# Altium footprint library R.PcbLib: 16 footprints
Each footprint in its own frame and in the unit in brackets; x right, y up, seen from the top. Pads: shape width x height; smd on the part's side, far side on the other; paste and mask are expansions set on the pad; w line width, h text height; cw(c..) or ccw(c..) is an arc to the next point about the centre after c.
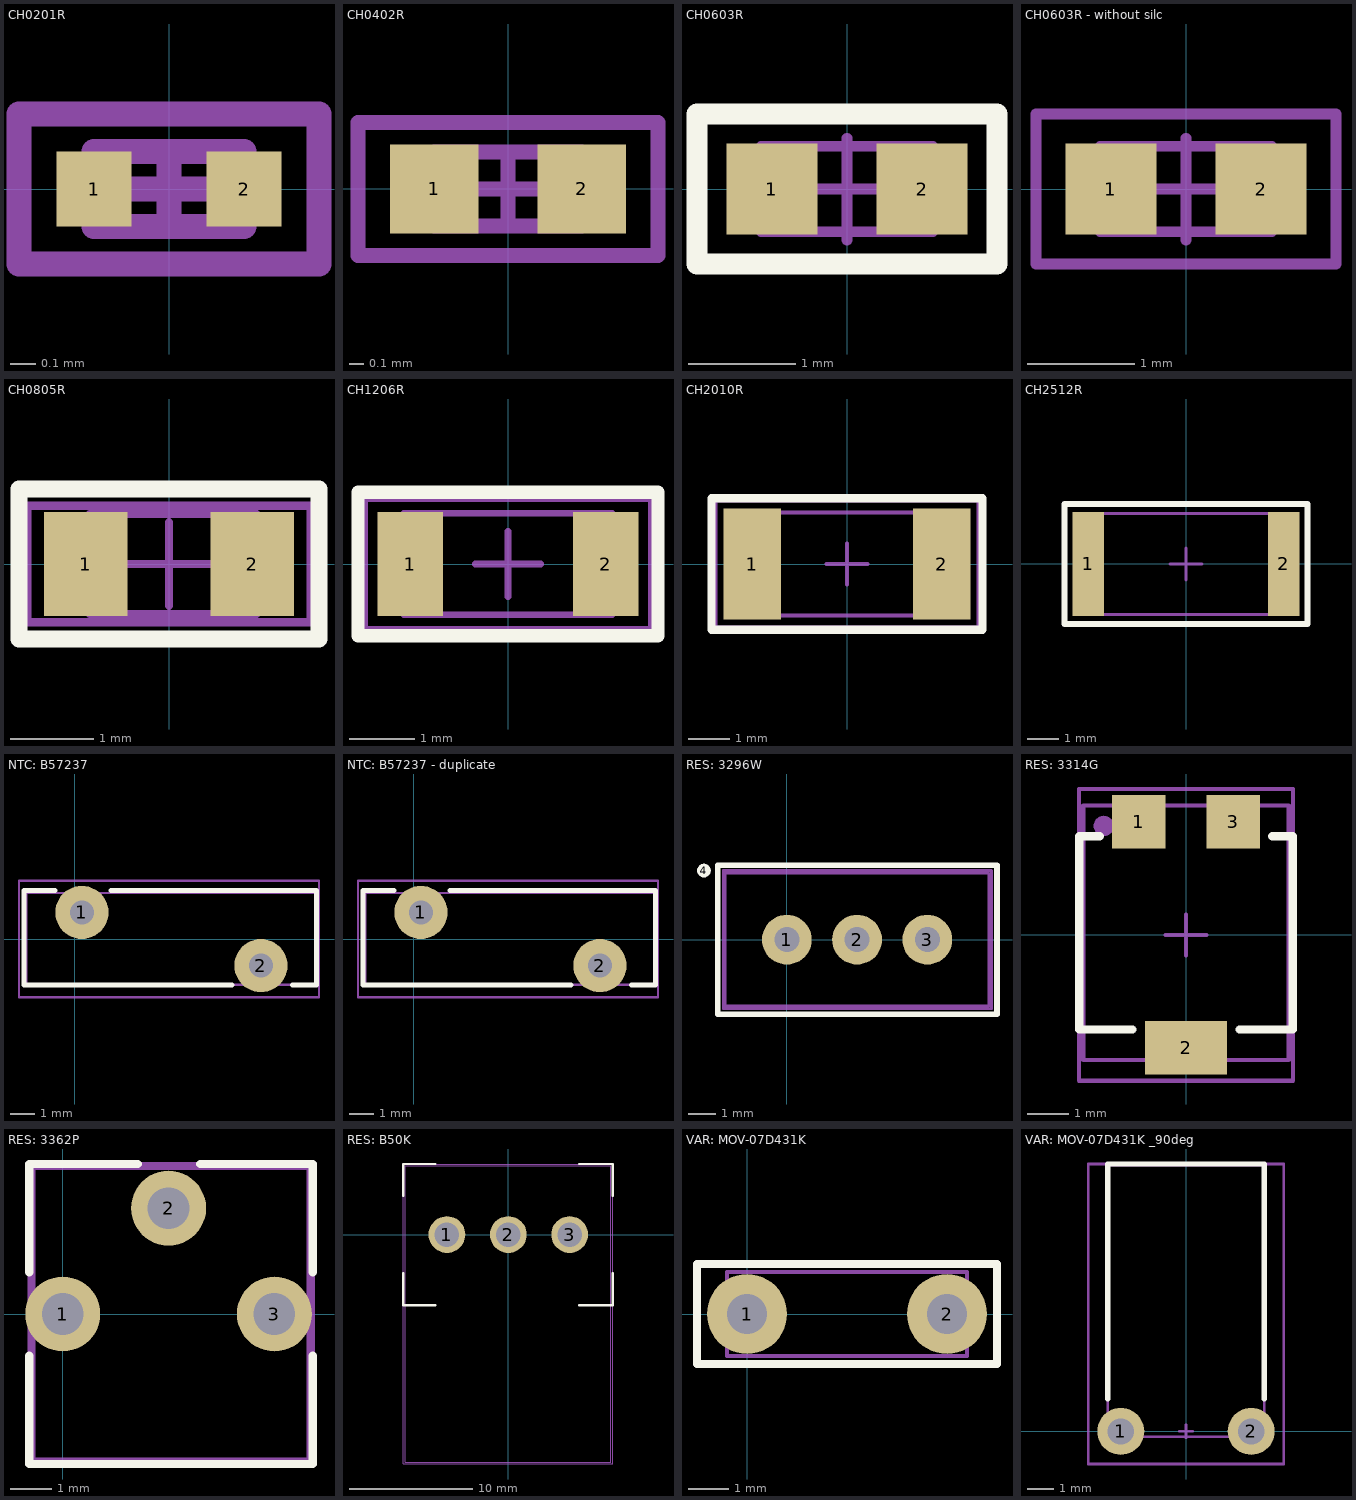
[diagram p0: the footprints below, top view; thin cyan lines are the x and y axes]

## CH0201R [mm]
height 0.23
pads (2):
  rect 0.3x0.3 smd: 1(-0.3,0) 2(0.3,0)
TopAssy:
  lines w0.1: -0.3,-0.15 -0.3,0.15 0.3,0.15 0.3,-0.15 -0.3,-0.15
Border:
  lines w0.1: -0.15,0 0.15,0 ; 0,-0.15 0,0.15 ; -0.6,-0.3 -0.6,0.3 0.6,0.3 0.6,-0.3 -0.6,-0.3
3D body "chip_0201_r.STEP": height 0.22, standoff -0.02, extent -0.3,-0.15 0.3,0.15

## CH0402R [mm]
height 0.35
pads (2):
  rect 0.6x0.6 smd: 1(-0.5,0) 2(0.5,0)
TopAssy:
  lines w0.1: -0.5,-0.25 -0.5,0.25 0.5,0.25 0.5,-0.25 -0.5,-0.25
Border:
  lines w0.1: -0.25,0 0.25,0 ; 0,-0.25 0,0.25 ; -1.016,-0.45 1.016,-0.45 1.016,0.45 -1.016,0.45 -1.016,-0.45
3D body "chip_0402_r.STEP": height 0.34, standoff -0.02, extent -0.525,-0.25 0.475,0.25

## CH0603R [mm]
height 0.45
pads (2):
  rect 0.85x0.85 smd: 1(-0.7,0) 2(0.7,0)
Top Overlay:
  lines w0.2: -1.4,-0.7 1.4,-0.7 1.4,0.7 -1.4,0.7 -1.4,-0.7
TopAssy:
  lines w0.1: -0.8,-0.4 0.8,-0.4 0.8,0.4 -0.8,0.4 -0.8,-0.4
Border:
  lines w0.1: -0.475,0 0.475,0 ; 0,-0.475 0,0.475 ; -1.4,-0.7 1.4,-0.7 1.4,0.7 -1.4,0.7 -1.4,-0.7
3D body "chip_0603_r.STEP": height 0.44, standoff -0.02, extent -0.8,-0.4 0.8,0.4

## CH0603R - without silc [mm]
height 0.45
pads (2):
  rect 0.85x0.85 smd: 1(-0.7,0) 2(0.7,0)
TopAssy:
  lines w0.1: -0.8,-0.4 -0.8,0.4 0.8,0.4 0.8,-0.4 -0.8,-0.4
Border:
  lines w0.1: -0.475,0 0.475,0 ; 0,-0.475 0,0.475 ; -1.4,-0.7 -1.4,0.7 1.4,0.7 1.4,-0.7 -1.4,-0.7
3D body "chip_0603_r.STEP": height 0.44, standoff -0.02, extent -0.8,-0.4 0.8,0.4

## CH0805R [mm]
height 0.45
pads (2):
  rect 1x1.25 smd: 1(-1,0) 2(1,0)
Top Overlay:
  lines w0.2: -1.8,-0.9 -1.8,0.9 1.8,0.9 1.8,-0.9 -1.8,-0.9
TopAssy:
  lines w0.1: -0.949,-0.6 -0.949,0.6 1.05,0.6 1.05,-0.6 -0.949,-0.6
Border:
  lines w0.1: -0.5,0 0.5,0 ; 0,-0.5 0,0.5 ; -1.7,-0.7 -1.7,0.7 1.7,0.7 1.7,-0.7 -1.7,-0.7
3D body "chip_0805_r.STEP": height 0.44, standoff -0.02, extent -1,-0.6 1,0.6

## CH1206R [mm] "Chip Resistor, 2-Leads, Body 3,0x1,5mm, IPC Low Density"
height 0.6
pads (2):
  rect 1x1.6 smd: 1(-1.5,0) 2(1.5,0)
Top Overlay:
  lines w0.2: -2.3,-1.1 2.3,-1.1 2.3,1.1 -2.3,1.1 -2.3,-1.1
TopAssy:
  lines w0.1: -1.6,-0.775 1.6,-0.775 1.6,0.775 -1.6,0.775 -1.6,-0.775
Border:
  lines w0.1: -0.5,0 0.5,0 ; 0,-0.5 0,0.5 ; -2.2,-1 2.2,-1 2.2,1 -2.2,1 -2.2,-1
3D body "chip_1206_r.STEP": height 0.47, standoff -0.03, extent -1.65,-0.8 1.55,0.8

## CH2010R [mm]
height 0.55
pads (2):
  rect 1.4x2.7 smd: 1(-2.3,0) 2(2.3,0)
Top Overlay:
  lines w0.2: -3.3,-1.6 -3.3,1.6 3.3,1.6 3.3,-1.6 -3.3,-1.6
TopAssy:
  lines w0.1: -2.5,-1.25 -2.5,1.25 2.5,1.25 2.5,-1.25 -2.5,-1.25
Border:
  lines w0.1: -0.5,0 0.5,0 ; 0,-0.5 0,0.5 ; -3.2,-1.55 3.2,-1.55 3.2,1.55 -3.2,1.55 -3.2,-1.55
3D body "User Library-R_2010.STEP": height 0.6, standoff 0, extent -2.5,-1.25 2.5,1.25

## CH2512R [mm]
height 0.55
pads (2):
  rect 1x3.3 smd: 1(-3.1,0) 2(3.1,0)
Top Overlay:
  lines w0.2: -3.85,-1.9 -3.85,1.9 3.85,1.9 3.85,-1.9 -3.85,-1.9
TopAssy:
  lines w0.1: -3.175,-1.6 -3.175,1.6 3.175,1.6 3.175,-1.6 -3.175,-1.6
Border:
  lines w0.1: -0.5,0 0.5,0 ; 0,-0.5 0,0.5 ; -3.85,-1.9 -3.85,1.9 3.85,1.9 3.85,-1.9 -3.85,-1.9
3D body "chip_2512_r.STEP": height 0.52, standoff -0.04, extent -3.175,-1.6 3.175,1.6

## NTC: B57237 [mm]
pads (2):
  round 2.2 hole 1: 1(0.3,1.1) 2(7.7,-1.1)
Top Overlay:
  lines w0.2: -0.8,2 -2.1,2 -2.1,-1.9 6.5,-1.9 ; 1.5,2 10,2 10,-1.9 9,-1.9
TopAssy:
  lines w0.1: -2,-1.9 -2,1.902 10,1.902 10,-1.9 -2,-1.9
Border (Mech15):
  lines w0.1: -2.3,-2.4 10.1,-2.4 10.1,2.4 -2.3,2.4 -2.3,-2.4
3D body "User Library-S10K275.STEP": height 13, standoff -2.5, extent -2,-1.9 10,1.902

## NTC: B57237 - duplicate [mm]
pads (2):
  round 2.2 hole 1: 1(0.3,1.1) 2(7.7,-1.1)
Top Overlay:
  lines w0.2: -0.8,2 -2.1,2 -2.1,-1.9 6.5,-1.9 ; 1.5,2 10,2 10,-1.9 9,-1.9
TopAssy:
  lines w0.1: -2,-1.9 10,-1.9 10,1.902 -2,1.902 -2,-1.9
Border (Mech15):
  lines w0.1: -2.3,-2.4 -2.3,2.4 10.1,2.4 10.1,-2.4 -2.3,-2.4
3D body "User Library-S10K275.STEP": height 13, standoff -2.5, extent -2,-1.9 10,1.902

## RES: 3296W [mm]
pads (4):
  round 1.8 hole 0.9: 1(0,0) 2(2.54,0) 3(5.08,0)
  round 0.5 on Top Overlay: 4(-3,2.5)
Top Overlay:
  lines w0.2: -2.5,-2.7 -2.5,2.7 7.6,2.7 7.6,-2.7 -2.5,-2.7
TopAssy:
  lines w0.1: -2.225,-2.4 -2.225,2.4 7.305,2.4 7.305,-2.4 -2.225,-2.4
Border:
  lines w0.1: -2.3,-2.5 -2.3,2.5 7.4,2.5 7.4,-2.5 -2.3,-2.5
3D body "User Library-3296W.STEP": height 11.55, standoff -1.6, extent -2.225,-2.4 7.305,2.4

## RES: 3314G [mm]
pads (4):
  rect 1.3x1.3 smd: 1(-1.15,2.75) 3(1.15,2.75)
  rect 2x1.3 smd: 2(0,-2.75)
  round 0.5 on Mech1: ""(-2,2.65)
Top Overlay:
  lines w0.2: -2.1,2.4 -2.6,2.4 -2.6,-2.3 -1.3,-2.3 ; 1.3,-2.3 2.6,-2.3 2.6,2.4 2.1,2.4
TopAssy:
  lines w0.1: -2.499,-3.049 2.5,-3.049 2.5,3.149 -2.499,3.149 -2.499,-3.049
Border:
  lines w0.1: -0.5,0 0.5,0 ; 0,-0.5 0,0.5 ; -2.6,-3.55 -2.6,3.55 2.6,3.55 2.6,-3.55 -2.6,-3.55
3D body "3314g-1-103e.stp": height 2.72, standoff -0.01, extent -2.499,-3.049 2.5,3.149

## RES: 3362P [mm]
pads (3):
  round 1.8 hole 1: 1(0,0) 2(2.54,2.54) 3(5.08,0)
Top Overlay:
  lines w0.2: -0.8,-1 -0.8,-3.6 6,-3.6 6,-1 ; -0.8,1 -0.8,3.6 1.8,3.6 ; 3.3,3.6 6,3.6 6,1
TopAssy:
  lines w0.1: -0.7,-3.49 5.9,-3.49 5.9,3.5 -0.7,3.5 -0.7,-3.49
Border:
  lines w0.1: -0.8,-3.6 -0.8,3.6 6,3.6 6,-3.6 -0.8,-3.6
3D body "User Library-R_3362P.STEP": height 4.5, standoff -3, extent -0.7,-3.49 5.9,3.5

## RES: B50K [mm]
pads (3):
  round 3 hole 2: 1(-5,0) 2(0,0) 3(5,0)
Top Overlay:
  lines w0.2: -8.55,-3.15 -8.55,-5.75 -5.95,-5.75 ; -8.55,3.15 -8.55,5.75 -5.95,5.75 ; 5.8,-5.75 8.5,-5.75 8.5,-3.15 ; 5.8,5.75 8.5,5.75 8.5,3.15
TopAssy:
  lines w0.1: -8.4,-18.55 8.35,-18.55 8.35,5.6 -8.4,5.6 -8.4,-18.55
Border:
  lines w0.1: -8.55,-18.7 -8.55,5.75 8.5,5.75 8.5,-18.7 -8.55,-18.7
3D body "User Library-Potentiometer.STEP": height 21.38, standoff -3.56, extent -8.382,-18.53 8.382,5.6

## VAR: MOV-07D431K [mm]
pads (2):
  round 2 hole 1: 1(0,0) 2(5,0)
Top Overlay:
  lines w0.2: -1.25,-1.25 -1.25,1.25 6.25,1.25 6.25,-1.25 -1.25,-1.25
TopAssy:
  lines w0.1: -0.5,-1.05 -0.5,1.05 5.5,1.05 5.5,-1.05 -0.5,-1.05
Border (Mech15):
  lines w0.1: -1.25,-1.25 6.25,-1.25 6.25,1.25 -1.25,1.25 -1.25,-1.25
3D body "User Library-Disc_CAP d6x3_5_5mm.STEP": height 8.1, standoff -2.02, extent -0.5,-1.05 5.5,1.05

## VAR: MOV-07D431K _90deg [mm]
pads (3):
  round 1.8 hole 1: 1(-2.5,0) 2(2.5,0)
  round 0.5 on Mech1: ""(-2.5,0.25)
Top Overlay:
  lines w0.2: -3,1.25 -3,10.25 3,10.25 3,1.25
TopAssy:
  lines w0.1: -3,-0.2 -3,10.2 3,10.2 3,-0.2 -3,-0.2
Border (Mech15):
  lines w0.1: -0.25,0 0.25,0 ; 0,-0.25 0,0.25 ; -3.75,-1.25 -3.75,10.25 3.75,10.25 3.75,-1.25 -3.75,-1.25
3D body "DEBB33D_90.STEP": height 4.02, standoff -1.98, extent -3,-0.2 3,10.2